# Altium footprint library Chip_Capacitor_L.PcbLib: 24 footprints (part 1 of 2)
Each footprint in its own frame and in the unit in brackets; x right, y up, seen from the top. Pads: shape width x height; smd on the part's side, far side on the other; paste and mask are expansions set on the pad; w line width, h text height; cw(c..) or ccw(c..) is an arc to the next point about the centre after c.
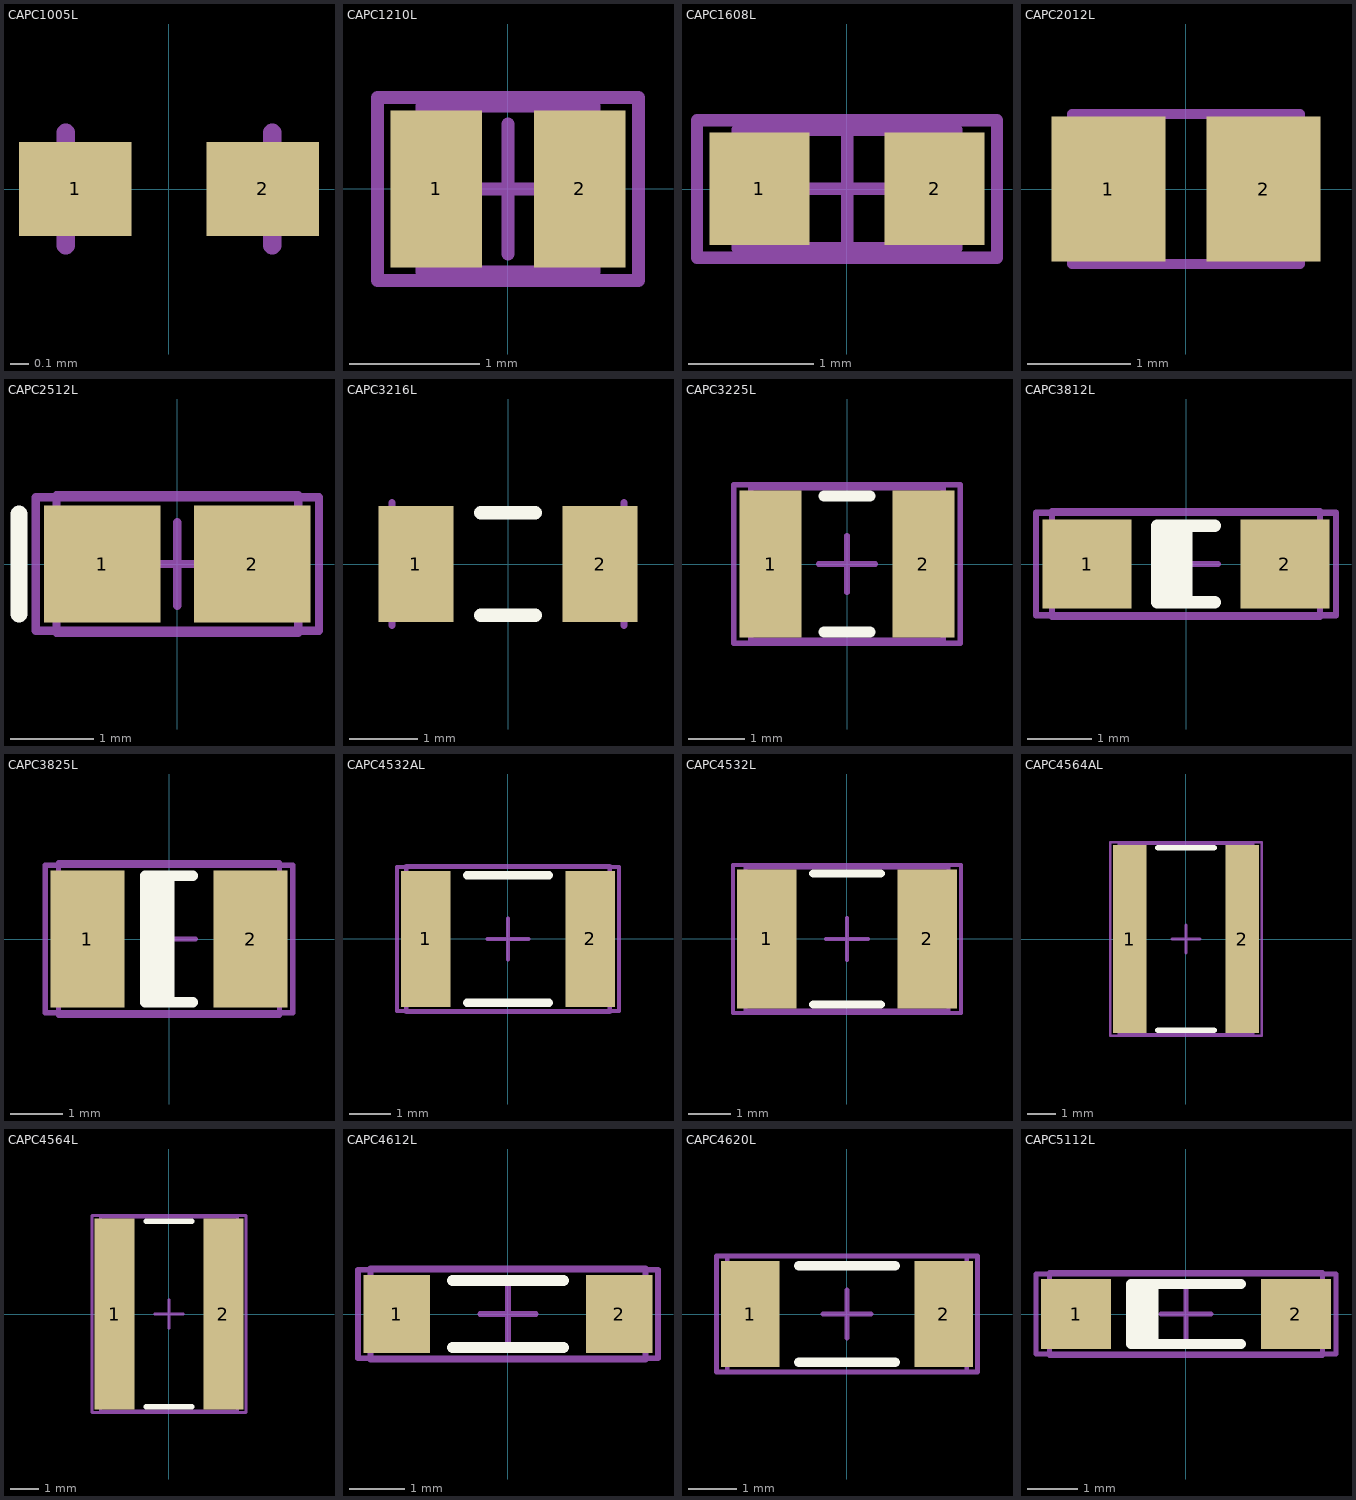
[diagram p0: the footprints below, top view; thin cyan lines are the x and y axes]

## CAPC1005L [mm] "Chip Capacitor, Body 1.0x0.5mm, IPC High Density"
height 0.6
pads (2):
  rect 0.6x0.5 smd: 1(-0.5,0) 2(0.5,0)
Mechanical 13:
  lines w0.1: -0.55,-0.3 -0.55,0.3 ; 0.55,-0.3 0.55,0.3

## CAPC1210L [mm] "Chip Capacitor, Body 1.2x1.0mm, IPC High Density"
height 1.02
pads (2):
  rect 0.7x1.2 smd: 1(-0.55,0) 2(0.55,0)
Mechanical 13:
  lines w0.1: -0.66,-0.635 -0.66,0.635 0.66,0.635 0.66,-0.635 -0.66,-0.635
Mechanical 15:
  lines w0.1: -0.5,0 0.5,0 ; 0,-0.5 0,0.5 ; -1,-0.7 -1,0.7 1,0.7 1,-0.7 -1,-0.7
3D body: height 1.02, standoff 0, extent -0.66,-0.635 0.66,0.635

## CAPC1608L [mm] "Chip Capacitor, Body 1.6x0.8mm, IPC High Density"
height 0.85
pads (2):
  rect 0.8x0.9 smd: 1(-0.7,0) 2(0.7,0)
Mechanical 13:
  lines w0.1: -0.875,-0.475 -0.875,0.475 0.875,0.475 0.875,-0.475 -0.875,-0.475
Mechanical 15:
  lines w0.1: -0.475,0 0.475,0 ; 0,-0.475 0,0.475 ; -1.2,-0.55 -1.2,0.55 1.2,0.55 1.2,-0.55 -1.2,-0.55
3D body "конденсатор _0603.STEP": height 0.52, standoff 0.03, extent -0.8,-0.447 0.8,0.447

## CAPC2012L [mm] "Chip Capacitor, Body 2.0x1.3mm, IPC High Density"
height 1.1
pads (2):
  rect 1.1x1.4 smd: 1(-0.75,0) 2(0.75,0)
Mechanical 13:
  lines w0.1: -1.1,-0.725 1.1,-0.725 1.1,0.725 -1.1,0.725 -1.1,-0.725
3D body "конденсаторы 0805.STEP": height 0.63, standoff 0.05, extent -1.05,-0.677 1.05,0.677

## CAPC2512L [mm] "Chip Capacitor, Body 2.54x1.27mm, IPC High Density"
height 1.66
pads (2):
  rect 1.4x1.4 smd: 1(-0.9,0) 2(0.9,0)
Top Overlay:
  lines w0.2: -1.9,-0.6 -1.9,0.6
Mechanical 13:
  lines w0.1: -1.45,-0.825 1.45,-0.825 1.45,0.825 -1.45,0.825 -1.45,-0.825
Mechanical 15:
  lines w0.1: -0.5,0 0.5,0 ; 0,-0.5 0,0.5 ; -1.7,-0.8 1.7,-0.8 1.7,0.8 -1.7,0.8 -1.7,-0.8
3D body: height 1.66, standoff 0, extent -1.45,-0.825 1.45,0.825

## CAPC3216L [mm] "Chip Capacitor, Body 3.2x1.6mm, IPC High Density"
height 1.35
pads (2):
  rect 1.1x1.7 smd: 1(-1.35,0) 2(1.35,0)
Top Overlay:
  lines w0.2: -0.4,-0.75 0.4,-0.75 ; -0.4,0.75 0.4,0.75
Mechanical 13:
  lines w0.1: -1.7,-0.9 -1.7,0.9 ; 1.7,-0.9 1.7,0.9
3D body "C_1206.STEP": height 0.6, standoff -0.05, extent -1.55,-0.85 1.55,0.85

## CAPC3225L [mm] "Chip Capacitor, Body 3.2x2.5mm, IPC High Density"
height 1.35
pads (2):
  rect 1.1x2.6 smd: 1(-1.35,0) 2(1.35,0)
Top Overlay:
  lines w0.2: -0.4,-1.2 0.4,-1.2 ; -0.4,1.2 0.4,1.2
Mechanical 13:
  lines w0.1: -1.7,-1.35 -1.7,1.35 1.7,1.35 1.7,-1.35 -1.7,-1.35
Mechanical 15:
  lines w0.1: -0.5,0 0.5,0 ; 0,-0.5 0,0.5 ; -2,-1.4 -2,1.4 2,1.4 2,-1.4 -2,-1.4
3D body: height 1.35, standoff 0, extent -1.7,-1.35 1.7,1.35

## CAPC3812L [mm] "Chip Capacitor, Body 3.81x1.27mm, IPC High Density"
height 1.66
pads (2):
  rect 1.4x1.4 smd: 1(-1.55,0) 2(1.55,0)
Top Overlay:
  rectangle: -0.45,-0.6 0.1,0.6
  lines w0.2: 0.45,-0.6 -0.45,-0.6 -0.45,0.6 0.45,0.6
Mechanical 13:
  lines w0.1: -2.1,-0.825 2.1,-0.825 2.1,0.825 -2.1,0.825 -2.1,-0.825
Mechanical 15:
  lines w0.1: -0.5,0 0.5,0 ; 0,-0.5 0,0.5 ; -2.35,-0.8 2.35,-0.8 2.35,0.8 -2.35,0.8 -2.35,-0.8
3D body: height 1.66, standoff 0, extent -2.1,-0.825 2.1,0.825

## CAPC3825L [mm] "Chip Capacitor, Body 3.81x2.54mm, IPC High Density"
height 1.66
pads (2):
  rect 1.4x2.6 smd: 1(-1.55,0) 2(1.55,0)
Top Overlay:
  rectangle: -0.45,-1.2 0.1,1.2
  lines w0.2: 0.45,-1.2 -0.45,-1.2 -0.45,1.2 0.45,1.2
Mechanical 13:
  lines w0.1: -2.1,-1.45 -2.1,1.45 2.1,1.45 2.1,-1.45 -2.1,-1.45
Mechanical 15:
  lines w0.1: -0.5,0 0.5,0 ; 0,-0.5 0,0.5 ; -2.35,-1.4 -2.35,1.4 2.35,1.4 2.35,-1.4 -2.35,-1.4
3D body: height 1.66, standoff 0, extent -2.1,-1.45 2.1,1.45

## CAPC4532AL [mm] "Chip Capacitor, Body 4.5x3.2mm, IPC High Density"
height 2.03
pads (2):
  rect 1.2x3.3 smd: 1(-2,0) 2(2,0)
Top Overlay:
  lines w0.2: -1,-1.55 1,-1.55 ; -1,1.55 1,1.55
Mechanical 13:
  lines w0.1: -2.475,-1.78 2.475,-1.78 2.475,1.78 -2.475,1.78 -2.475,-1.78
Mechanical 15:
  lines w0.1: -0.5,0 0.5,0 ; 0,-0.5 0,0.5 ; -2.7,-1.75 2.7,-1.75 2.7,1.75 -2.7,1.75 -2.7,-1.75
3D body: height 2.03, standoff 0, extent -2.475,-1.78 2.475,1.78

## CAPC4532L [mm] "Chip Capacitor, Body 4.5x3.2mm, IPC High Density"
height 1.35
pads (2):
  rect 1.4x3.3 smd: 1(-1.9,0) 2(1.9,0)
Top Overlay:
  lines w0.2: -0.8,-1.55 0.8,-1.55 ; -0.8,1.55 0.8,1.55
Mechanical 13:
  lines w0.1: -2.4,-1.7 -2.4,1.7 2.4,1.7 2.4,-1.7 -2.4,-1.7
Mechanical 15:
  lines w0.1: -0.5,0 0.5,0 ; 0,-0.5 0,0.5 ; -2.7,-1.75 -2.7,1.75 2.7,1.75 2.7,-1.75 -2.7,-1.75
3D body: height 1.35, standoff 0, extent -2.4,-1.7 2.4,1.7

## CAPC4564AL [mm] "Chip Capacitor, Body 4.5x6.4mm, IPC High Density"
height 2.03
pads (2):
  rect 1.2x6.7 smd: 1(-2,0) 2(2,0)
Top Overlay:
  lines w0.2: -1,-3.25 1,-3.25 ; -1,3.25 1,3.25
Mechanical 13:
  lines w0.1: -2.4,-3.4 -2.4,3.4 2.4,3.4 2.4,-3.4 -2.4,-3.4
Mechanical 15:
  lines w0.1: -0.5,0 0.5,0 ; 0,-0.5 0,0.5 ; -2.7,-3.45 -2.7,3.45 2.7,3.45 2.7,-3.45 -2.7,-3.45
3D body: height 2.03, standoff 0, extent -2.4,-3.4 2.4,3.4

## CAPC4564L [mm] "Chip Capacitor, Body 4.5x6.4mm, IPC High Density"
height 1.1
pads (2):
  rect 1.4x6.7 smd: 1(-1.9,0) 2(1.9,0)
Top Overlay:
  lines w0.2: -0.8,-3.25 0.8,-3.25 ; -0.8,3.25 0.8,3.25
Mechanical 13:
  lines w0.1: -2.4,-3.4 -2.4,3.4 2.4,3.4 2.4,-3.4 -2.4,-3.4
Mechanical 15:
  lines w0.1: -0.5,0 0.5,0 ; 0,-0.5 0,0.5 ; -2.7,-3.45 -2.7,3.45 2.7,3.45 2.7,-3.45 -2.7,-3.45
3D body: height 1.1, standoff 0, extent -2.4,-3.4 2.4,3.4

## CAPC4612L [mm] "Chip Capacitor, Body 4.57x1.27mm, IPC High Density"
height 1.4
pads (2):
  rect 1.2x1.4 smd: 1(-2,0) 2(2,0)
Top Overlay:
  lines w0.2: -1,-0.6 1,-0.6 ; -1,0.6 1,0.6
Mechanical 13:
  lines w0.1: -2.475,-0.825 -2.475,0.825 2.475,0.825 2.475,-0.825 -2.475,-0.825
Mechanical 15:
  lines w0.1: -0.5,0 0.5,0 ; 0,-0.5 0,0.5 ; -2.7,-0.8 -2.7,0.8 2.7,0.8 2.7,-0.8 -2.7,-0.8
3D body: height 1.4, standoff 0, extent -2.475,-0.825 2.475,0.825

## CAPC4620L [mm] "Chip Capacitor, Body 4.6x2.0mm, IPC High Density"
height 2.03
pads (2):
  rect 1.2x2.2 smd: 1(-2,0) 2(2,0)
Top Overlay:
  lines w0.2: -1,-1 1,-1 ; -1,1 1,1
Mechanical 13:
  lines w0.1: -2.475,-1.2 2.475,-1.2 2.475,1.2 -2.475,1.2 -2.475,-1.2
Mechanical 15:
  lines w0.1: -0.5,0 0.5,0 ; 0,-0.5 0,0.5 ; -2.7,-1.2 2.7,-1.2 2.7,1.2 -2.7,1.2 -2.7,-1.2
3D body: height 2.03, standoff 0, extent -2.475,-1.2 2.475,1.2

## CAPC5112L [mm] "Chip Capacitor, Body 5.08x1.27mm, IPC High Density"
height 1.66
pads (2):
  rect 1.4x1.4 smd: 1(-2.2,0) 2(2.2,0)
Top Overlay:
  rectangle: -1.1,-0.6 -0.55,0.6
  lines w0.2: 1.1,-0.6 -1.1,-0.6 -1.1,0.6 1.1,0.6
Mechanical 13:
  lines w0.1: -2.73,-0.825 -2.73,0.825 2.73,0.825 2.73,-0.825 -2.73,-0.825
Mechanical 15:
  lines w0.1: -0.5,0 0.5,0 ; 0,-0.5 0,0.5 ; -3,-0.8 -3,0.8 3,0.8 3,-0.8 -3,-0.8
3D body: height 1.66, standoff 0, extent -2.73,-0.825 2.73,0.825